# EAGLE library part 1365-60 (library EW_Connectors)
DUAL ROW STRAIGHT HEADER 1364 SERIES. 1.27mm x 1.27mm. Without Fixing Post. SMT Source: http://www.leotronics.co.uk/Conexcon/Data%20Sheets/sec.%20A/1364ing.pdf
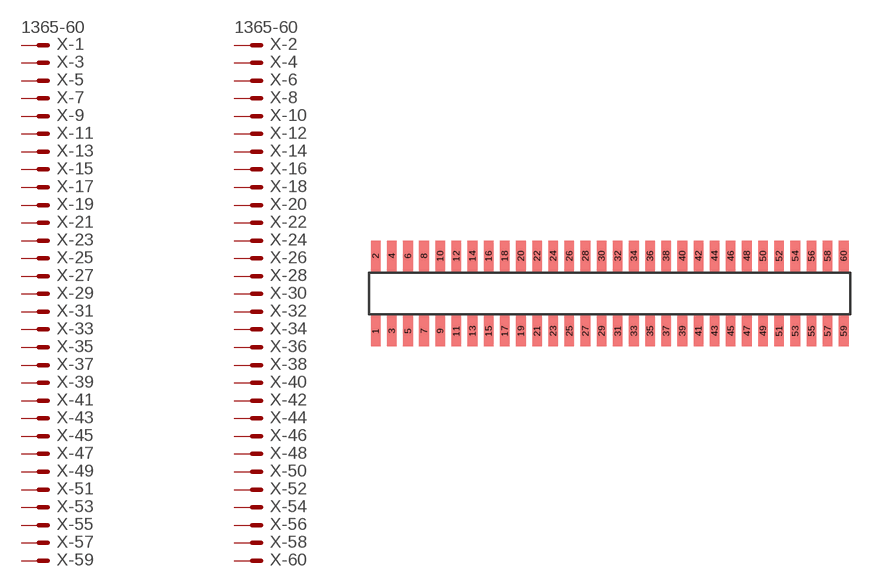
[diagram p169: symbol with the pads of 1365-60; footprint 1365-60]

Designator prefix X; gates -1=MVAL-35 -2=MVAL-35 -3=M-47 -4=M-47 -5=M-47 -6=M-47 -7=M-47 -8=M-47 -9=M-47 -10=M-47 -11=M-47 -12=M-47 -13=M-47 -14=M-47 -15=M-47 -16=M-47 -17=M-47 -18=M-47 -19=M-47 -20=M-47 -21=M-47 -22=M-47 -23=M-47 -24=M-47 -25=M-47 -26=M-47 -27=M-47 -28=M-47 -29=M-47 -30=M-47 -31=M-47 -32=M-47 -33=M-47 -34=M-47 -35=M-47 -36=M-47 -37=M-47 -38=M-47 -39=M-47 -40=M-47 -41=M-47 -42=M-47 -43=M-47 -44=M-47 -45=M-47 -46=M-47 -47=M-47 -48=M-47 -49=M-47 -50=M-47 -51=M-47 -52=M-47 -53=M-47 -54=M-47 -55=M-47 -56=M-47 -57=M-47 -58=M-47 -59=M-47 -60=M-47

## 1365-60 (OC_FARNELL: unknown; OC_NEWARK: unknown)  [1365-60]
1  -1:S  pas
2  -2:S  pas
3  -3:S  pas
4  -4:S  pas
5  -5:S  pas
6  -6:S  pas
7  -7:S  pas
8  -8:S  pas
9  -9:S  pas
10  -10:S  pas
11  -11:S  pas
12  -12:S  pas
13  -13:S  pas
14  -14:S  pas
15  -15:S  pas
16  -16:S  pas
17  -17:S  pas
18  -18:S  pas
19  -19:S  pas
20  -20:S  pas
21  -21:S  pas
22  -22:S  pas
23  -23:S  pas
24  -24:S  pas
25  -25:S  pas
26  -26:S  pas
27  -27:S  pas
28  -28:S  pas
29  -29:S  pas
30  -30:S  pas
31  -31:S  pas
32  -32:S  pas
33  -33:S  pas
34  -34:S  pas
35  -35:S  pas
36  -36:S  pas
37  -37:S  pas
38  -38:S  pas
39  -39:S  pas
40  -40:S  pas
41  -41:S  pas
42  -42:S  pas
43  -43:S  pas
44  -44:S  pas
45  -45:S  pas
46  -46:S  pas
47  -47:S  pas
48  -48:S  pas
49  -49:S  pas
50  -50:S  pas
51  -51:S  pas
52  -52:S  pas
53  -53:S  pas
54  -54:S  pas
55  -55:S  pas
56  -56:S  pas
57  -57:S  pas
58  -58:S  pas
59  -59:S  pas
60  -60:S  pas

## Footprint 1365-60 (pad centres in mm)
DUAL ROW STRAIGHT HEADER 1364 SERIES. 1.27mm x 1.27mm. Without Fixing Post. SMT Source: http://www.leotronics.co.uk/Conexcon/Data%20Sheets/sec.%20A/1364ing.pdf
smd 0.76 x 2.4: 1 -18.415,-2.95; 2 -18.415,2.95; 3 -17.145,-2.95; 4 -17.145,2.95; 5 -15.875,-2.95; 6 -15.875,2.95; 7 -14.605,-2.95; 8 -14.605,2.95; 9 -13.335,-2.95; 10 -13.335,2.95; 11 -12.065,-2.95; 12 -12.065,2.95; 13 -10.795,-2.95; 14 -10.795,2.95; 15 -9.525,-2.95; 16 -9.525,2.95; 17 -8.255,-2.95; 18 -8.255,2.95; 19 -6.985,-2.95; 20 -6.985,2.95; 21 -5.715,-2.95; 22 -5.715,2.95; 23 -4.445,-2.95; 24 -4.445,2.95; 25 -3.175,-2.95; 26 -3.175,2.95; 27 -1.905,-2.95; 28 -1.905,2.95; 29 -0.635,-2.95; 30 -0.635,2.95; 31 0.635,-2.95; 32 0.635,2.95; 33 1.905,-2.95; 34 1.905,2.95; 35 3.175,-2.95; 36 3.175,2.95; 37 4.445,-2.95; 38 4.445,2.95; 39 5.715,-2.95; 40 5.715,2.95; 41 6.985,-2.95; 42 6.985,2.95; 43 8.255,-2.95; 44 8.255,2.95; 45 9.525,-2.95; 46 9.525,2.95; 47 10.795,-2.95; 48 10.795,2.95; 49 12.065,-2.95; 50 12.065,2.95; 51 13.335,-2.95; 52 13.335,2.95; 53 14.605,-2.95; 54 14.605,2.95; 55 15.875,-2.95; 56 15.875,2.95; 57 17.145,-2.95; 58 17.145,2.95; 59 18.415,-2.95; 60 18.415,2.95